# Altium schematic symbol library Simulation Sources.SchLib: 23 symbols
Pins are listed as number, name and electrical type; pins without a type are passive.

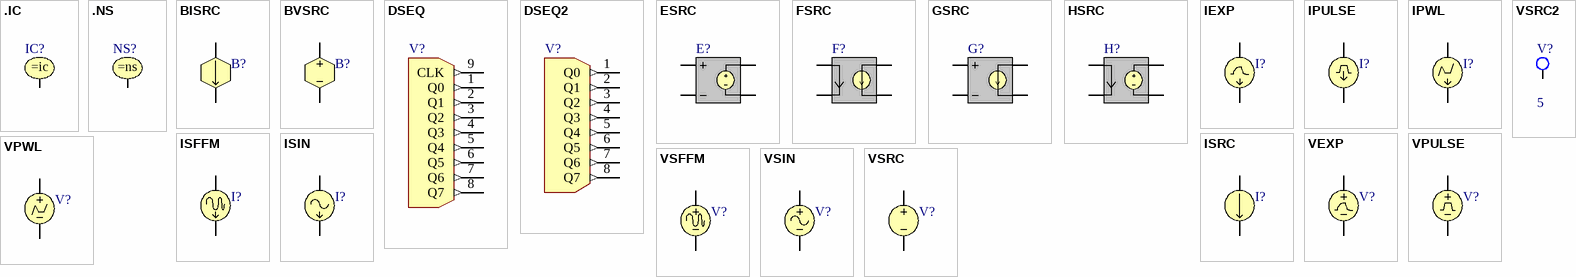
[diagram p0: symbols .IC to VSRC2]

## .IC
designator IC?
Initial Condition; Published: 8-Jun-2000; LatestRevisionDate: 17-Jul-2002; LatestRevisionNote: Re-released for DXP Platform.; PackageReference: Not Applicable; Publisher: Altium Limited
simulation model ControlStatement
pins: 1

## .NS
designator NS?
Node Set; Published: 8-Jun-2000; LatestRevisionDate: 17-Jul-2002; LatestRevisionNote: Re-released for DXP Platform.; PackageReference: Not Applicable; Publisher: Altium Limited
simulation model ControlStatement
pins: 1

## BISRC
designator B?
Non-Linear Dependent Current Source; Note: PCB Footprint - Not required; Sim Note: Enter the formula required into the EQUATION field; Published: 8-Jun-2000; LatestRevisionDate: 17-Jul-2002; LatestRevisionNote: Re-released for DXP Platform.; PackageReference: Not Applicable; Publisher: Altium Limited
simulation model NLDS
pins: 1, 2

## BVSRC
designator B?
Non-Linear Dependent Voltage Source; Note: PCB Footprint - Not required; Sim Note: Enter formula required into the equation field; Published: 8-Jun-2000; LatestRevisionDate: 17-Jul-2002; LatestRevisionNote: Re-released for DXP Platform.; PackageReference: Not Applicable; Publisher: Altium Limited
simulation model NLDS
pins: 1, 2

## DSEQ
designator V?
Data Sequencer with Clock Output; Note: PCB Footprint - Not required; Published: 17-Jul-2002; LatestRevisionDate: 21-May-2003; LatestRevisionNote: SIM file, XsourceFile.txt, added.; PackageReference: Not Applicable; Publisher: Altium Limited
simulation model xsourcesub (SUBCKT)
pins: 1 Q0 (out), 2 Q1 (out), 3 Q2 (out), 4 Q3 (out), 5 Q4 (out), 6 Q5 (out), 7 Q6 (out), 8 Q7 (out), 9 CLK (out)

## DSEQ2
designator V?
Data Sequencer; Note: PCB Footprint - Not required; Published: 17-Jul-2002; LatestRevisionDate: 21-May-2003; LatestRevisionNote: SIM file, XSOURCEFILE2.TXT, added.; PackageReference: Not Applicable; Publisher: Altium Limited
simulation model xsourcesub2 (SUBCKT)
pins: 1 Q0 (out), 2 Q1 (out), 3 Q2 (out), 4 Q3 (out), 5 Q4 (out), 6 Q5 (out), 7 Q6 (out), 8 Q7 (out)

## ESRC
designator E?
Voltage Controlled Voltage Source; Note: PCB Footprint - Not required; Sim Note: Enter gain into gain field; Published: 8-Jun-2000; LatestRevisionDate: 17-Jul-2002; LatestRevisionNote: Re-released for DXP Platform.; PackageReference: Not Applicable; Publisher: Altium Limited
simulation model VCVS
pins: 1 NC+, 2 NC-, 3 N+, 4 N-

## FSRC
designator F?
Current Controlled Current Source; Note: PCB Footprint - Not required; Sim Note: Enter gain into GAIN field; Published: 8-Jun-2000; LatestRevisionDate: 17-Jul-2002; LatestRevisionNote: Re-released for DXP Platform.; PackageReference: Not Applicable; Publisher: Altium Limited
simulation model CCCS
pins: 1 NC+, 2 NC-, 3 N+, 4 N-

## GSRC
designator G?
Voltage Controlled Current Source; Note: PCB Footprint - Not required; Sim Note: Enter gain into GAIN field; Published: 8-Jun-2000; LatestRevisionDate: 17-Jul-2002; LatestRevisionNote: Re-released for DXP Platform.; PackageReference: Not Applicable; Publisher: Altium Limited
simulation model VCCS
pins: 1 NC+, 2 NC-, 3 N+, 4 N-

## HSRC
designator H?
Current Controlled Voltage Source; Note: PCB Footprint - Not required; Sim Note: Enter gain into gain field; Published: 8-Jun-2000; LatestRevisionDate: 17-Jul-2002; LatestRevisionNote: Re-released for DXP Platform.; PackageReference: Not Applicable; Publisher: Altium Limited
simulation model CCVS
pins: 1 NC+, 2 NC-, 3 N+, 4 N-

## IEXP
designator I?
Exponential Current Source; Published: 8-Jun-2000; LatestRevisionDate: 15-Nov-2004; LatestRevisionNote: Corrected Netlist.; PackageReference: Not Applicable; Publisher: Altium Limited
simulation model IEXP
pins: 1, 2

## IPULSE
designator I?
Pulse Current Source; Published: 8-Jun-2000; LatestRevisionDate: 15-Nov-2004; LatestRevisionNote: Corrected Netlist.; PackageReference: Not Applicable; Publisher: Altium Limited
simulation model IPULSE
pins: 1, 2

## IPWL
designator I?
Piecewise Linear Current Source; Sim Note: To add model file containing time-current pairs of values, enter model location under "General Tab" in "Full Path" box.; Published: 8-Jun-2000; LatestRevisionDate: 17-Jul-2002; LatestRevisionNote: Re-released for DXP Platform.; PackageReference: Not Applicable; Publisher: Altium Limited
simulation model IPWL
pins: 1, 2

## ISFFM
designator I?
Frequency-Modulated Sinusoidal Current Source; Published: 8-Jun-2000; LatestRevisionDate: 17-Jul-2002; LatestRevisionNote: Re-released for DXP Platform.; PackageReference: Not Applicable; Publisher: Altium Limited
simulation model ISFFM
pins: 1, 2

## ISIN
designator I?
Sinusoidal Current Source; Published: 8-Jun-2000; LatestRevisionDate: 15-Nov-2004; LatestRevisionNote: Corrected Netlist.; PackageReference: Not Applicable; Publisher: Altium Limited
simulation model ISIN
pins: 1, 2

## ISRC
designator I?
Current Source; Note: PCB Footprint - Not required; Published: 8-Jun-2000; LatestRevisionDate: 17-Jul-2002; LatestRevisionNote: Re-released for DXP Platform.; PackageReference: Not Applicable; Publisher: Altium Limited
simulation model ISRC
pins: 1, 2

## VEXP
designator V?
Exponential Voltage Source; Note: PCB Footprint - Not required; Published: 8-Jun-2000; LatestRevisionDate: 15-Nov-2004; LatestRevisionNote: Corrected Netlist.; PackageReference: Not Applicable; Publisher: Altium Limited
simulation model VEXP
pins: 1, 2

## VPULSE
designator V?
Pulse Voltage Source; Note: PCB Footprint - Not required; Published: 8-Jun-2000; LatestRevisionDate: 15-Nov-2004; LatestRevisionNote: Corrected Netlist.; PackageReference: Not Applicable; Publisher: Altium Limited
simulation model VPULSE
pins: 1, 2

## VPWL
designator V?
Piecewise Linear Voltage Source; Note: PCB Footprint - Not required; Sim Note: To add model file containing time-current pairs of values, enter model location under "General Tab" in "Full Path" box.; Published: 8-Jun-2000; LatestRevisionDate: 17-Jul-2002; LatestRevisionNote: Re-released for DXP Platform.; PackageReference: Not Applicable; Publisher: Altium Limited
simulation model VPWL
pins: 1, 2

## VSFFM
designator V?
Frequency-Modulated Sinusoidal Voltage Source; Note: PCB Footprint - Not required; Published: 8-Jun-2000; LatestRevisionDate: 17-Jul-2002; LatestRevisionNote: Re-released for DXP Platform.; PackageReference: Not Applicable; Publisher: Altium Limited
simulation model VSFFM
pins: 1, 2

## VSIN
designator V?
Sinusoidal Voltage Source; Note: PCB Footprint - Not required; Published: 8-Jun-2000; LatestRevisionDate: 15-Nov-2004; LatestRevisionNote: Corrected Netlist.; PackageReference: Not Applicable; Publisher: Altium Limited
simulation model VSIN
pins: 1, 2

## VSRC
designator V?
Voltage Source; Note: PCB Footprint - Not required; Published: 8-Jun-2000; LatestRevisionDate: 17-Jul-2002; LatestRevisionNote: Re-released for DXP Platform.; PackageReference: Not Applicable; Publisher: Altium Limited
simulation model VSRC
pins: 1, 2

## VSRC2
designator V?  value 5
Voltage Source; Note: PCB Footprint - Not required; Published: 8-Jun-2000; LatestRevisionDate: 17-Jul-2002; LatestRevisionNote: Re-released for DXP Platform.; PackageReference: Not Applicable; Publisher: Altium Limited
simulation model VSRC
pins: 1